# Altium footprint library ESP12_PcbLib.PcbLib: 17 footprints (part 1 of 2)
Each footprint in its own frame and in the unit in brackets; x right, y up, seen from the top. Pads: shape width x height; smd on the part's side, far side on the other; paste and mask are expansions set on the pad; w line width, h text height; cw(c..) or ccw(c..) is an arc to the next point about the centre after c.
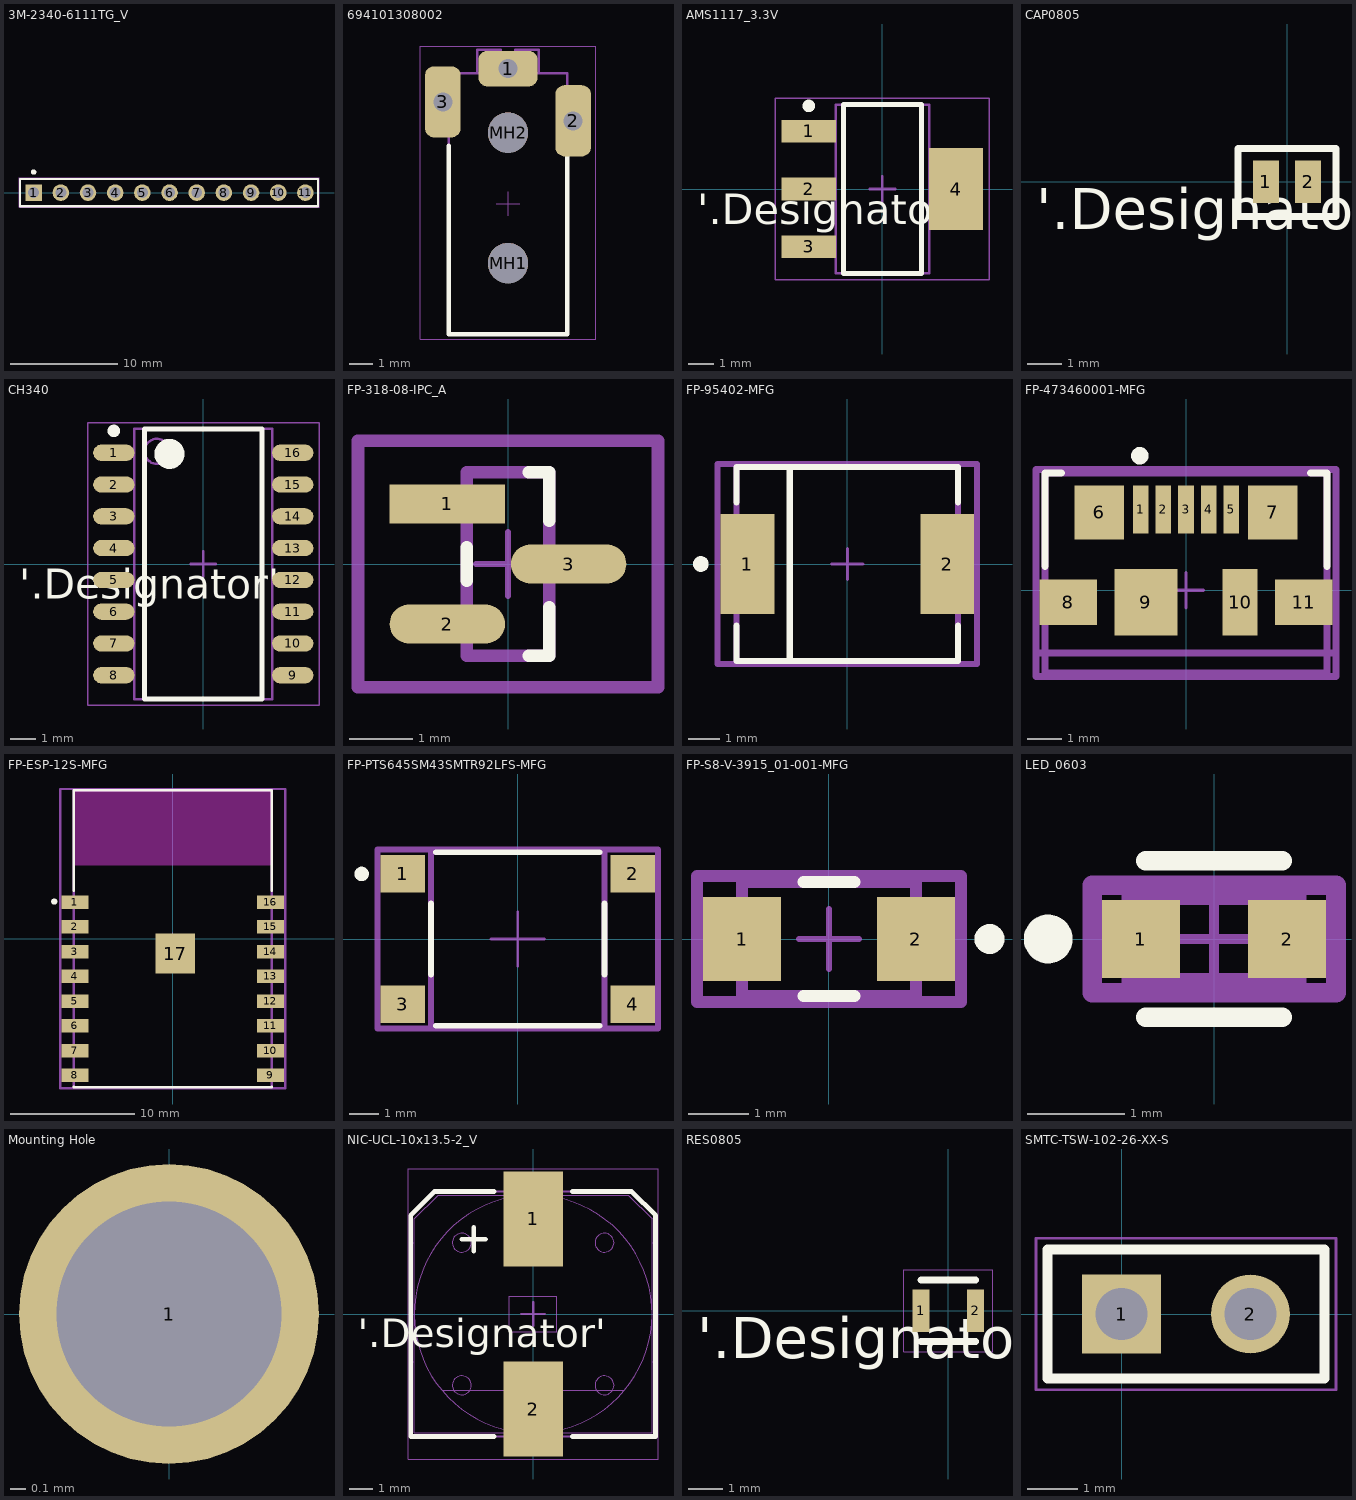
[diagram p0: the footprints below, top view; thin cyan lines are the x and y axes]

## 3M-2340-6111TG_V [mm] "THD, 40-Leads, Body 101.6x2.54mm, Pitch 2.54mm"
height 8.636
pads (11):
  rect 1.55x1.55 hole 1.02: 1(-49.53,0)
  round 1.55 hole 1.02: 2(-46.99,0) 3(-44.45,0) 4(-41.91,0) 5(-39.37,0) 6(-36.83,0) 7(-34.29,0) 8(-31.75,0) 9(-29.21,0) 10(-26.67,0) 11(-24.13,0)
Top Overlay:
  circle w0.25: c-49.53,1.92 r0.125
  lines w0.2: -50.8,-1.27 -22.96,-1.27 -22.96,1.27 -50.8,1.27 -50.8,-1.27
Mechanical 13:
  lines w0.1: -50.8,-1.27 -22.96,-1.27 -22.96,1.27 -50.8,1.27 -50.8,-1.27
Mechanical 15:
  lines w0.05: -50.9,-1.37 -22.86,-1.37 -22.86,1.37 -50.9,1.37 -50.9,-1.37
3D body: height 2.54, standoff 0, extent -50.673,-1.27 -22.96,1.27
3D body: height 8.64, standoff -3.05, extent -24.45,-0.32 -23.81,0.32
3D body: height 8.64, standoff -3.05, extent -26.99,-0.32 -26.35,0.32
3D body: height 8.64, standoff -3.05, extent -29.53,-0.32 -28.89,0.32
3D body: height 8.64, standoff -3.05, extent -32.07,-0.32 -31.43,0.32
3D body: height 8.64, standoff -3.05, extent -34.61,-0.32 -33.97,0.32
3D body: height 8.64, standoff -3.05, extent -37.15,-0.32 -36.51,0.32
3D body: height 8.64, standoff -3.05, extent -39.69,-0.32 -39.05,0.32
3D body: height 8.64, standoff -3.05, extent -42.23,-0.32 -41.59,0.32
3D body: height 8.64, standoff -3.05, extent -44.77,-0.32 -44.13,0.32
3D body: height 8.64, standoff -3.05, extent -47.31,-0.32 -46.67,0.32
3D body: height 8.64, standoff -3.05, extent -49.85,-0.32 -49.21,0.32

## 694101308002 [mm] "DC Power Jack THT Right Angled Low Profile(2.8)"
height 5
pads (5):
  rrect50% 2.5x1.5 hole 0.8 square: 1(-1270,-1264.3)
  rrect50% 1.5x3 hole 0.8 square: 2(-1267.25,-1266.5) 3(-1272.75,-1265.7)
  round 1.7 hole 1.7 unplated: MH1(-1270,-1272.5) MH2(-1270,-1267)
Top Overlay:
  lines w0.2: -1272.5,-1267.55 -1272.5,-1275.5 -1267.5,-1275.5 -1267.5,-1267.55
Top 3D Body:
  lines w0.1: -1271.3,-1264.5 -1271.3,-1263.5 -1270.3,-1263.5 -1270.3,-1264.5 ; -1269.7,-1264.5 -1269.7,-1263.5 -1268.7,-1263.5 -1268.7,-1264.5 ; -1272.5,-1275.5 -1267.5,-1275.5 -1267.5,-1264.5 -1272.5,-1264.5 -1272.5,-1275.5
Top Courtyard:
  lines w0.05: -1270.5,-1270 -1269.5,-1270 ; -1270,-1270.5 -1270,-1269.5 ; -1273.7,-1275.7 -1273.7,-1263.35 -1266.3,-1263.35 -1266.3,-1275.7 -1273.7,-1275.7
Top Designator:
  text ".Designator" at -1277.498,-1270.5 h1.5
Top Component Outline:
  lines w0.1: -1271.3,-1264.5 -1271.3,-1263.5 -1270.3,-1263.5 -1270.3,-1264.5 ; -1269.7,-1264.5 -1269.7,-1263.5 -1268.7,-1263.5 -1268.7,-1264.5 ; -1272.5,-1275.5 -1272.5,-1264.5 -1267.5,-1264.5 -1267.5,-1275.5 -1272.5,-1275.5
3D body "694101308002.stp": height 5.05, standoff -2.25, extent -1272.9,-1275.5 -1267.1,-1263.5

## AMS1117_3.3V [mm] "SOT223, 4-Leads, Body 6.50x7.00mm (avg), Pitch 2.30mm, IPC Medium Density"
height 1.8
pads (4):
  rect 2.15x0.9 smd: 1(-2.925,2.3) 2(-2.925,0) 3(-2.925,-2.3)
  rect 2.15x3.25 smd: 4(2.925,0)
Top Overlay:
  circle w0.25: c-2.925,3.3 r0.125
  lines w0.2: -1.55,-3.35 -1.55,3.35 1.55,3.35 1.55,-3.35 -1.55,-3.35
  text "'.Designator'" at -7.365,-1.397 h1.2
Mechanical 13:
  lines w0.1: -1.85,-3.35 -1.85,3.35 1.85,3.35 1.85,-3.35 -1.85,-3.35
Mechanical 15:
  lines w0.05: -4.25,-3.6 -4.25,3.6 4.25,3.6 4.25,-3.6 -4.25,-3.6
  lines w0.1: -0.5,0 0.5,0 ; 0,-0.5 0,0.5
3D body: height 1.8, standoff 0.02, extent -1.85,-3.35 1.85,3.35

## CAP0805 [mm]
pads (2):
  rect 0.76x1.25 smd: 1(-0.62,0) 2(0.62,0)
Top Overlay:
  lines w0.2: -1.437,-1.016 1.438,-1.016 1.438,0.976 -1.437,0.976 -1.437,-1.016
  text "'.Designator'" at -7.365,-1.397 h1.2
3D body "VJ0805A101JXCAP.STEP": height 1.26, standoff 0.01, extent -1,-0.737 1,0.713

## CH340 [mm]
height 1.9
pads (16):
  oval 1.65x0.65 smd: 1(-3.575,4.445) 2(-3.575,3.175) 3(-3.575,1.905) 4(-3.575,0.635) 5(-3.575,-0.635) 6(-3.575,-1.905) 7(-3.575,-3.175) 8(-3.575,-4.445) 9(3.575,-4.445) 10(3.575,-3.175) 11(3.575,-1.905) 12(3.575,-0.635) 13(3.575,0.635) 14(3.575,1.905) 15(3.575,3.175) 16(3.575,4.445)
Top Overlay:
  circle w0.25: c-3.575,5.32 r0.125
  circle w0.6: c-1.35,4.4 r0.3
  lines w0.2: -2.35,-5.4 -2.35,5.4 2.35,5.4 2.35,-5.4 -2.35,-5.4
  text "'.Designator'" at -7.365,-1.397 h1.2
Mechanical 13:
  circle w0.1: c-1.85,4.5 r0.5
  lines w0.1: -2.75,-5.4 -2.75,5.4 2.75,5.4 2.75,-5.4 -2.75,-5.4
Mechanical 15:
  lines w0.05: -4.625,-5.65 -4.625,5.65 4.625,5.65 4.625,-5.65 -4.625,-5.65
  lines w0.1: -0.5,0 0.5,0 ; 0,-0.5 0,0.5
3D body: height 1.9, standoff 0.25, extent -2.75,-5.4 2.75,5.4

## FP-318-08-IPC_A [mm]
pads (3):
  rect 1.824x0.618 smd paste+0 mask+0: 1(-0.96,0.95)
  rrect100% 1.824x0.618 smd paste+0 mask+0: 2(-0.96,-0.95) 3(0.96,0)
Top Overlay:
  lines w0.2: -0.65,-0.266 -0.65,0.266 ; 0.327,-1.45 0.65,-1.45 0.65,-0.684 ; 0.327,1.45 0.65,1.45 0.65,0.684
Top 3D Body:
  lines w0.2: -0.65,-1.45 0.65,-1.45 0.65,1.45 -0.65,1.45 -0.65,-1.45
Top Courtyard:
  lines w0.2: -2.372,-1.95 2.372,-1.95 2.372,1.95 -2.372,1.95 -2.372,-1.95
Top Assembly:
  lines w0.2: -2.372,-1.95 2.372,-1.95 2.372,1.95 -2.372,1.95 -2.372,-1.95
  text ".Designator" at 0,-0.001 h1
Top Component Center:
  lines w0.1: -0.5,0 0.5,0 ; 0,-0.5 0,0.5
3D body "IC_ON_Semiconductor_NUD3112LT1G_eec.STEP": height 0.25, standoff 0, extent -2.372,-1.95 2.372,1.95

## FP-95402-MFG [mm]
pads (2):
  rect 1.72x3.2 smd paste+0 mask+0: 1(-3.205,0) 2(3.205,0)
Top Overlay:
  circle w0.25: c-4.7,0 r0.125
  lines w0.2: -3.555,-1.975 -3.555,-3.11 3.555,-3.11 3.555,-1.975 ; -3.555,1.975 -3.555,3.11 3.555,3.11 3.555,1.975 ; -1.85,-3 -1.85,3
Top 3D Body:
  lines w0.2: -3.555,-3.11 -3.555,3.11 3.555,3.11 3.555,-3.11 -3.555,-3.11
Top Courtyard:
  lines w0.2: -4.165,-3.21 -4.165,3.21 4.165,3.21 4.165,-3.21 -4.165,-3.21
Top Assembly:
  lines w0.2: -4.165,-3.21 -4.165,3.21 4.165,3.21 4.165,-3.21 -4.165,-3.21
  text ".Designator" at 0,-0.001 h1
Top Component Center:
  lines w0.1: -0.5,0 0.5,0 ; 0,-0.5 0,0.5
3D body "Diode_Vishay_SS34-E3-57T_eec.STEP": height 0.25, standoff 0, extent -4.165,-3.21 4.165,3.21

## FP-473460001-MFG [mm]
pads (11):
  rect 0.45x1.38 smd paste+0 mask+0: 1(-1.3,2.31) 2(-0.65,2.31) 3(0,2.31) 4(0.65,2.31) 5(1.3,2.31)
  rect 1.425x1.55 smd paste+0 mask+0: 6(-2.488,2.225) 7(2.488,2.225)
  rect 1.65x1.3 smd paste+0 mask+0: 8(-3.375,-0.35) 11(3.375,-0.35)
  rect 1.8x1.9 smd paste+0 mask+0: 9(-1.15,-0.35)
  rect 1x1.9 smd paste+0 mask+0: 10(1.55,-0.35)
Top Overlay:
  circle w0.25: c-1.325,3.85 r0.125
  lines w0.2: -4.045,0.675 -4.045,3.35 -3.575,3.35 ; 3.575,3.35 4.045,3.35 4.045,0.675
Top 3D Body:
  lines w0.2: -4.3,-1.8 4.3,-1.8 ; -4.045,-2.38 -4.045,3.35 4.045,3.35 4.045,-2.38 -4.045,-2.38
Top Courtyard:
  lines w0.2: -4.3,-2.48 -4.3,3.45 4.3,3.45 4.3,-2.48 -4.3,-2.48
Top Assembly:
  lines w0.2: -4.3,-2.48 -4.3,3.45 4.3,3.45 4.3,-2.48 -4.3,-2.48
  text ".Designator" at 0,0.673 h1
Top Component Center:
  lines w0.1: -0.5,0 0.5,0 ; 0,-0.5 0,0.5
3D body "Conn_Molex_473460001_eec.STEP": height 0.25, standoff 0, extent -4.3,-2.48 4.3,3.45

## FP-ESP-12S-MFG [mm]
pads (17):
  rect 2.2x1.1 smd paste+0 mask+0: 1(-7.9,2.95) 2(-7.9,0.95) 3(-7.9,-1.05) 4(-7.9,-3.05) 5(-7.9,-5.05) 6(-7.9,-7.05) 7(-7.9,-9.05) 8(-7.9,-11.05) 9(7.9,-11.05) 10(7.9,-9.05) 11(7.9,-7.05) 12(7.9,-5.05) 13(7.9,-3.05) 14(7.9,-1.05) 15(7.9,0.95) 16(7.9,2.95)
  rect 3.2x3.2 smd paste+0 mask+0: 17(0.2,-1.2)
Top Overlay:
  circle w0.25: c-9.575,3 r0.125
  lines w0.2: -8,-11.975 -8,-12 8,-12 8,-11.975 ; -8,3.875 -8,12 8,12 8,3.875
Keep-Out Layer:
  rectangle: -8,5.9 8,12
  rectangle: -8,5.9 8,12
Top 3D Body:
  lines w0.2: -8,-12 8,-12 8,12 -8,12 -8,-12
Top Courtyard:
  lines w0.2: -9.1,-12.1 9.1,-12.1 9.1,12.1 -9.1,12.1 -9.1,-12.1
Top Assembly:
  lines w0.2: -9.1,-12.1 9.1,-12.1 9.1,12.1 -9.1,12.1 -9.1,-12.1
  text ".Designator" at 0,0.188 h1
Top Component Center:
  lines w0.1: -0.5,0 0.5,0 ; 0,-0.5 0,0.5
3D body "UNK_RF_Solutions_ESP-12S_eec.STEP": height 0.25, standoff 0, extent -9.1,-12.1 9.1,12.1

## FP-PTS645SM43SMTR92LFS-MFG [mm]
pads (4):
  rect 1.55x1.3 smd paste+0 mask+0: 1(-3.975,2.25) 2(3.975,2.25) 3(-3.975,-2.25) 4(3.975,-2.25)
Top Overlay:
  circle w0.25: c-5.4,2.25 r0.125
  lines w0.2: -3,-1.225 -3,1.225 ; -2.825,-3 2.825,-3 ; -2.825,3 2.825,3 ; 3,-1.225 3,1.225
Top 3D Body:
  lines w0.2: -3,-3 -3,3 3,3 3,-3 -3,-3
Top Courtyard:
  lines w0.2: -4.85,-3.1 -4.85,3.1 4.85,3.1 4.85,-3.1 -4.85,-3.1
Top Assembly:
  lines w0.2: -4.85,-3.1 -4.85,3.1 4.85,3.1 4.85,-3.1 -4.85,-3.1
  text ".Designator" at 0,0.188 h1
Top Component Center:
  lines w0.1: -0.93,0 0.93,0 ; 0,-0.93 0,0.93
3D body "Switch_C&K_PTS645SM43SMTR92LFS_eec.STEP": height 0.25, standoff 0, extent -4.85,-3.1 4.85,3.1

## FP-S8-V-3915_01-001-MFG [mm]
pads (2):
  rect 1.3x1.4 smd paste+0 mask+0: 1(-1.45,0) 2(1.45,0)
Top Overlay:
  circle w0.25: c2.675,0 r0.125
  lines w0.2: -0.425,-0.95 0.425,-0.95 ; -0.425,0.95 0.425,0.95
Top 3D Body:
  lines w0.2: -1.45,-0.95 -1.45,0.95 1.45,0.95 1.45,-0.95 -1.45,-0.95
Top Courtyard:
  lines w0.2: -2.2,-1.05 -2.2,1.05 2.2,1.05 2.2,-1.05 -2.2,-1.05
Top Assembly:
  lines w0.2: -2.2,-1.05 -2.2,1.05 2.2,1.05 2.2,-1.05 -2.2,-1.05
  text ".Designator" at 0,-0.001 h1
Top Component Center:
  lines w0.1: -0.5,0 0.5,0 ; 0,-0.5 0,0.5
3D body "Diode_Vishay_BZD27C5V6P-E3-08_eec.STEP": height 0.25, standoff 0, extent -2.2,-1.05 2.2,1.05

## LED_0603 [mm]
pads (2):
  rect 0.8x0.8 smd paste+0 mask+0: 1(-0.75,0) 2(0.75,0)
Top Overlay:
  circle w0.25: c-1.7,0 r0.125
  lines w0.2: -0.7,-0.8 0.7,-0.8 ; -0.7,0.8 0.7,0.8
Top 3D Body:
  lines w0.2: -0.85,-0.45 -0.85,0.45 0.85,0.45 0.85,-0.45 -0.85,-0.45
Top Courtyard:
  lines w0.2: -1.25,-0.55 -1.25,0.55 1.25,0.55 1.25,-0.55 -1.25,-0.55
Top Assembly:
  lines w0.2: -1.25,-0.55 -1.25,0.55 1.25,0.55 1.25,-0.55 -1.25,-0.55
  text ".Designator" at 0,-0.001 h1
Top Component Center:
  lines w0.1: -0.5,0 0.5,0 ; 0,-0.5 0,0.5
3D body "Diode_Lite-On_LTST-C191KSKT_eec.STEP": height 0.25, standoff 0, extent -1.25,-0.55 1.25,0.55

## Mounting Hole [mm]
pads (1):
  round 2 hole 1.5 unplated: 1(0,0)

## NIC-UCL-10x13.5-2_V [mm] "SMD, 2-Leads,Body 10.3x10.3mm, Height 14.3mm"
height 14.3
pads (2):
  rect 2.5x4 smd: 1(0,4) 2(0,-4)
Top Overlay:
  lines w0.2: -3,3.143 -2,3.143 ; -2.5,2.643 -2.5,3.643 ; -1.65,-5.15 -5.15,-5.15 -5.15,4.15 -4.15,5.15 -1.65,5.15 ; 1.65,-5.15 5.15,-5.15 5.15,4.15 4.15,5.15 1.65,5.15
  text "'.Designator'" at -7.365,-1.397 h1.2
Mechanical 13:
  circle w0.01: c-3,3 r0.4
  circle w0.01: c3,3 r0.4
  circle w0.01: c-3,-3 r0.4
  circle w0.01: c3,-3 r0.4
  lines w0.01: -0.5,-5.45 0.5,-5.45 0.5,-2.65 ; -0.5,-5.45 -0.5,-2.651 ; 0.499,2.651 0.499,5.449 ; 0.5,5.45 -0.5,5.45 -0.5,2.65 ; -5.149,-5.149 5.149,-5.149 ; -5.15,-5.15 -5.15,-2 -5,-2 -5,-5 ; -5.15,-5.15 5.15,-5.15 ; -5,-5 5,-5 ; -5,-5 -5,4 ; -5,-5 5,-5 ; -5,4 -4,5 ; -5,4 -5,3 -5.15,3 -5.15,4.15 -4.15,5.15 4.15,5.15 5.15,4.15 5.15,3 5,3 5,4 ; -5,4 -4,5 ; -4,5 4,5 ; -4,5 4,5 ; -3.83,-3.214 ccw(c0,0) 3.83,-3.214 ; -3.83,-3.214 cw(c0,0) 3.83,-3.214 ; -3.83,-3.214 3.83,-3.214 ; -3.83,-3.214 3.83,-3.214 ; -3.83,-3.214 3.83,-3.214 ; -0.5,2.65 ccw(c0,2.65) 0.5,2.65 -0.5,2.65 ; 0.5,-2.65 ccw(c0,-2.65) -0.5,-2.65 0.5,-2.65 ; 4,5 5,4 ; 4,5 5,4 ; 5,-5 5,4 ; 5,-5 5,-2 5.15,-2 5.15,-5.149 5.149,-5.149 ; -1,-0.75 1,-0.75 1,0.75 -1,0.75 -1,-0.75
  lines w0.1: -5.15,-5.15 -5.15,4.15 -4.15,5.15 4.15,5.15 5.15,4.15 5.15,-5.15 -5.15,-5.15
Mechanical 15:
  lines w0.05: -5.25,-6.1 5.25,-6.1 5.25,6.1 -5.25,6.1 -5.25,-6.1
  lines w0.1: -0.5,0 0.5,0 ; 0,-0.5 0,0.5
3D body: height 0.5, standoff 0.3, extent -5,-5 5,5
3D body: height 0.8, standoff 0.3, extent -5.15,-5.001 5.15,5.15
3D body: height 0.8, standoff 0.3, extent -5.149,-5.149 5.149,3.999
3D body: height 14.3, standoff 0.5, extent -5.004,-3.214 5.001,5.012
3D body: height 14.3, standoff 0.5, extent -3.831,-5.001 3.831,-3.213
3D body: height 0.3, standoff 0, extent -0.499,2.651 0.499,5.449
3D body: height 0.3, standoff 0, extent -0.499,2.152 0.499,2.651
3D body: height 0.3, standoff 0, extent -1,-0.75 1,0.75
3D body: height 0.3, standoff 0, extent -0.5,-2.651 0.499,-2.152
3D body: height 0.3, standoff 0, extent -0.5,-5.45 0.499,-2.651
3D body: height 1.2, standoff 0.8, extent -5.151,2.999 5.151,5.151
3D body: height 0.3, standoff 0, extent 2.601,2.601 3.399,3.399
3D body: height 0.3, standoff 0, extent -3.399,2.601 -2.601,3.399
3D body: height 0.3, standoff 0, extent 2.601,-3.399 3.399,-2.601
3D body: height 0.3, standoff 0, extent -3.399,-3.399 -2.601,-2.601
3D body: height 1.5, standoff 0.8, extent -5.149,-5.149 5.149,-2.001

## RES0805 [mm]
pads (2):
  rect 0.5x1.25 smd: 1(-0.8,0) 2(0.8,0)
Top Overlay:
  lines w0.2: -0.8,-0.9 0.8,-0.9 ; -0.8,0.9 0.8,0.9
  text "'.Designator'" at -7.365,-1.397 h1.2
Mechanical 15:
  lines w0.02: -1.3,-1.2 1.3,-1.2 1.3,1.2 -1.3,1.2 -1.3,-1.2
3D body: height 0.4, standoff 0.02, extent -0.8,-0.635 0.8,0.635

## SMTC-TSW-102-26-XX-S [mm] ".025 SQ Post Terminal Strip Assembly, 1x2 Pins, Vertical, 2.54mm Pitch, Male"
height 8.58
pads (2):
  rect 1.55x1.55 hole 1.02: 1(0,0)
  round 1.55 hole 1.02: 2(2.54,0)
Top Overlay:
  lines w0.2: -1.46,-1.27 4,-1.27 4,1.27 -1.46,1.27 -1.46,-1.27
Mechanical 13:
  lines w0.1: -1.46,-1.27 4,-1.27 4,1.27 -1.46,1.27 -1.46,-1.27
Mechanical 15:
  lines w0.05: -1.685,-1.495 4.225,-1.495 4.225,1.495 -1.685,1.495 -1.685,-1.495
3D body "TSW-102-26-XX-S.step": height 8.38, standoff -3.2, extent -1.397,-1.271 3.81,1.27